# EAGLE library part 71922-114LF (library FCI_By_element14_Batch_1)
LATCH HEADER, RIGHT ANGLE
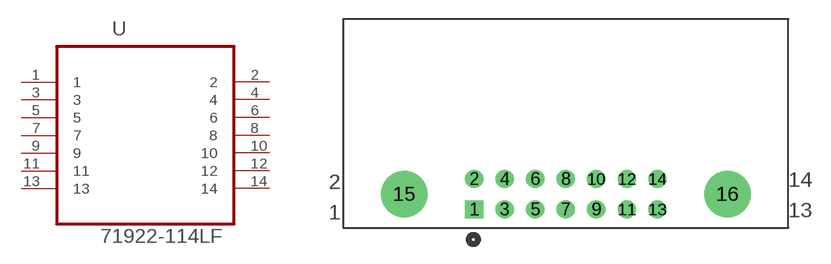
[diagram p37: symbol with the pads of FCI_71922-114LF; footprint FCI_71922-114LF]

Designator prefix U

## 71922-114LF (MPN: 71922-114LF; OC_FARNELL: 1835570; OC_NEWARK: 57K8360; PACKAGE: CON-14 WAYS; SUPPLIER: FCI)  [FCI_71922-114LF]
1  1  pas
2  2  pas
3  3  pas
4  4  pas
5  5  pas
6  6  pas
7  7  pas
8  8  pas
9  9  pas
10  10  pas
11  11  pas
12  12  pas
13  13  pas
14  14  pas

## Footprint FCI_71922-114LF (pad centres in mm)
drill 1.016 square: 1 -15.24,-2.54
drill 1.016: 2 -15.24,0; 3 -12.7,-2.54; 4 -12.7,0; 5 -10.16,-2.54; 6 -10.16,0; 7 -7.62,-2.54; 8 -7.62,0; 9 -5.08,-2.54; 10 -5.08,0; 11 -2.54,-2.54; 12 -2.54,0; 13 0,-2.54; 14 0,0
drill 2.845: 15 -21.082,-1.27; 16 5.842,-1.27